# Altium footprint library PCB - JUMPER - PLS-3.PcbLib: 1 footprints
Each footprint in its own frame and in the unit in brackets; x right, y up, seen from the top. Pads: shape width x height; smd on the part's side, far side on the other; paste and mask are expansions set on the pad; w line width, h text height; cw(c..) or ccw(c..) is an arc to the next point about the centre after c.
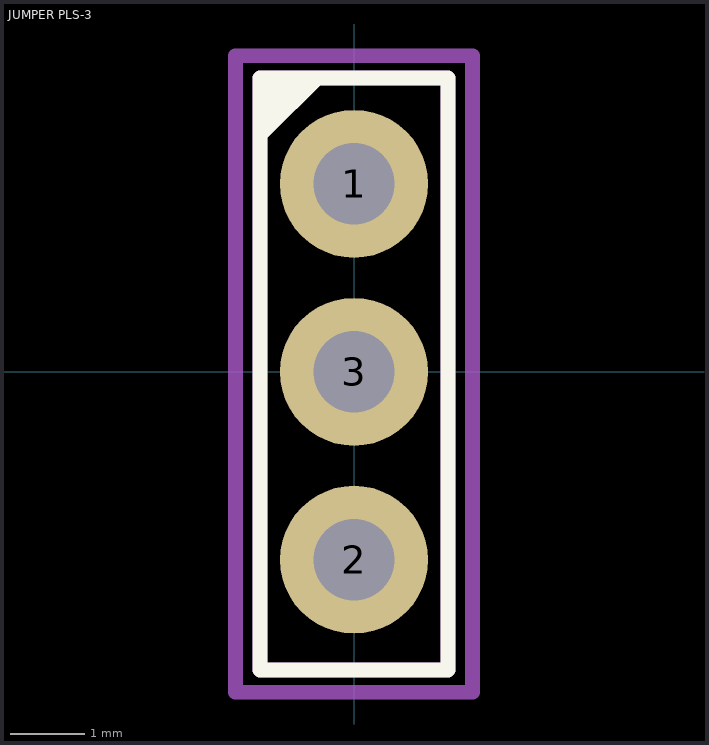
[diagram p0: the footprint, top view; thin cyan lines are the x and y axes]

## JUMPER PLS-3 [mm] "2.54mm 3 pin male jumper"
height 5
pads (3):
  round 2 hole 1.1: 1(0,2.54) 2(0,-2.54) 3(0,0)
Top Overlay:
  region: -1.23,4 -1.23,3.1 -0.33,4
  lines w0.2: -1.27,-4.03 1.27,-4.03 1.27,3.97 -1.27,3.97 -1.27,-4.03
9:
  lines w0.2: -0.5,0 0.5,0 ; 0,-0.5 0,0.5
Top Assembly:
  lines w0.2: -1.27,-4.03 1.27,-4.03 1.27,3.97 -1.27,3.97 -1.27,-4.03
Top Courtyard:
  lines w0.2: -1.6,-4.33 1.6,-4.33 1.6,4.27 -1.6,4.27 -1.6,-4.33
3D body "PLS-3.step": height 8.6, standoff -3, extent -1.27,-3.81 1.27,3.81
3D body "Jumper PLS-2.x_t": height 16.41, standoff 2.59, extent -1.2,-1.23 1.2,3.77